# Altium schematic symbol library MolexMicroSD.SchLib: 1 symbol
Pins are listed as number, name and electrical type; pins without a type are passive.

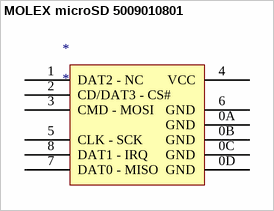
[diagram p0: symbol MOLEX microSD 5009010801]

## MOLEX microSD 5009010801
designator *
pins: 0A GND, 0B GND, 0C GND, 0D GND, 1 DAT2 - NC, 2 CD/DAT3 - CS#, 3 CMD - MOSI, 4 VCC, 5 CLK - SCK, 6 GND, 7 DAT0 - MISO, 8 DAT1 - IRQ